# Altium footprint library Lib1.PcbLib: 53 footprints (part 4 of 4)
Each footprint in its own frame and in the unit in brackets; x right, y up, seen from the top. Pads: shape width x height; smd on the part's side, far side on the other; paste and mask are expansions set on the pad; w line width, h text height; cw(c..) or ccw(c..) is an arc to the next point about the centre after c.
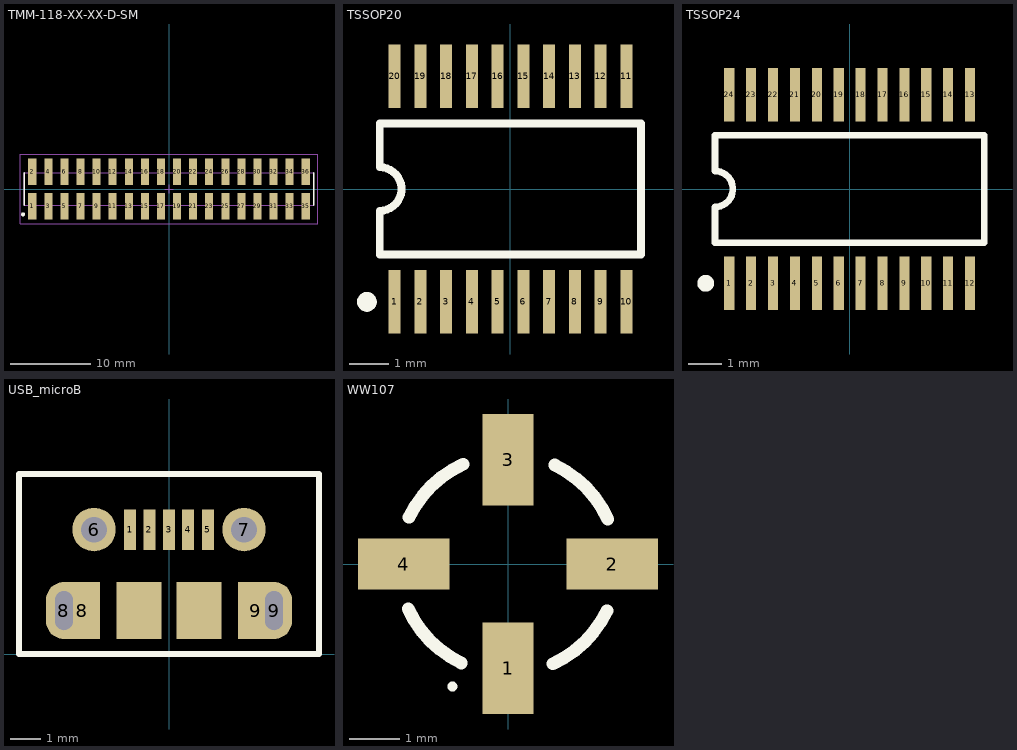
[diagram p3: the footprints below, top view; thin cyan lines are the x and y axes]

## TMM-118-XX-XX-D-SM [mm] "2.00mm pitch, 36 pin, terminal strip; double row, SMT"
height 2.77
pads (36):
  rect 1x3.3 smd mask+0: 1(-17,-2.15) 2(-17,2.15) 3(-15,-2.15) 4(-15,2.15) 5(-13,-2.15) 6(-13,2.15) 7(-11,-2.15) 8(-11,2.15) 9(-9,-2.15) 10(-9,2.15) 11(-7,-2.15) 12(-7,2.15) 13(-5,-2.15) 14(-5,2.15) 15(-3,-2.15) 16(-3,2.15) 17(-1,-2.15) 18(-1,2.15) 19(1,-2.15) 20(1,2.15) 21(3,-2.15) 22(3,2.15) 23(5,-2.15) 24(5,2.15) 25(7,-2.15) 26(7,2.15) 27(9,-2.15) 28(9,2.15) 29(11,-2.15) 30(11,2.15) 31(13,-2.15) 32(13,2.15) 33(15,-2.15) 34(15,2.15) 35(17,-2.15) 36(17,2.15)
Top Overlay:
  circle w0.25: c-18.15,-3.15 r0.125
  lines w0.2: -18,-2 -18,2 ; 18,-2 18,2
Mechanical 12:
  lines w0.001: -18,-2 18,-2 18,2 -18,2 -18,-2
Mechanical 13:
  lines w0.1: -18,-2 18,-2 18,2 -18,2 -18,-2
  text ".Designator" at 0,-0.127 h1.52
Mechanical 15:
  lines w0.05: -0.5,0 0.5,0 ; 0,-0.5 0,0.5 ; -18.5,-4.3 18.5,-4.3 18.5,4.3 -18.5,4.3 -18.5,-4.3

## TSSOP20 [mm] "Shrink Small Outline; 20 Leads; Body Width 4.4 mm; Pitch 0.65 mm"
height 1.1
pads (20):
  rect 0.3x1.6 smd: 1(-2.925,-2.85) 2(-2.275,-2.85) 3(-1.625,-2.85) 4(-0.975,-2.85) 5(-0.325,-2.85) 6(0.325,-2.85) 7(0.975,-2.85) 8(1.625,-2.85) 9(2.275,-2.85) 10(2.925,-2.85) 11(2.925,2.85) 12(2.275,2.85) 13(1.625,2.85) 14(0.975,2.85) 15(0.325,2.85) 16(-0.325,2.85) 17(-0.975,2.85) 18(-1.625,2.85) 19(-2.275,2.85) 20(-2.925,2.85)
Top Overlay:
  circle w0.25: c-3.625,-2.85 r0.125
  lines w0.2: -3.3,-1.65 3.3,-1.65 3.3,1.65 -3.3,1.65 -3.3,0.55 cw(c-3.3,0) -3.3,-0.55 -3.3,-1.65

## TSSOP24 [mm] "Shrink Small Outline; 24 Leads; Body Width 4.4 mm; Pitch 0.65 mm"
height 1.1
pads (24):
  rect 0.3x1.6 smd: 1(-3.575,-2.8) 2(-2.925,-2.8) 3(-2.275,-2.8) 4(-1.625,-2.8) 5(-0.975,-2.8) 6(-0.325,-2.8) 7(0.325,-2.8) 8(0.975,-2.8) 9(1.625,-2.8) 10(2.275,-2.8) 11(2.925,-2.8) 12(3.575,-2.8) 13(3.575,2.8) 14(2.925,2.8) 15(2.275,2.8) 16(1.625,2.8) 17(0.975,2.8) 18(0.325,2.8) 19(-0.325,2.8) 20(-0.975,2.8) 21(-1.625,2.8) 22(-2.275,2.8) 23(-2.925,2.8) 24(-3.575,2.8)
Top Overlay:
  circle w0.25: c-4.275,-2.8 r0.125
  lines w0.2: -4,-1.6 -4,-0.533 ccw(c-4,0) -4,0.533 -4,1.6 4,1.6 4,-1.6 -4,-1.6

## USB_microB [mm]
pads (13):
  rect 0.4x1.35 smd: 1(-1.3,4.15) 2(-0.65,4.15) 3(0,4.15) 4(0.64,4.15) 5(1.3,4.15)
  round 1.45 hole 0.85: 6(-2.5,4.15) 7(2.5,4.15)
  oval 1.2x1.9 hole 0.6 slot 1.3 at 90 deg: 8(-3.5,1.45) 9(3.5,1.45)
  rect 1.2x1.9 smd: 8(-2.9,1.45) 9(2.9,1.45)
  rect 1.5x1.9 smd: ""(-1,1.45) ""(1,1.45)
Top Overlay:
  lines w0.2: -5,0 -5,6 5,6 5,0 -5,0

## WW107 [mm] "SOT-23/SC-74A; 5 Leads; Body 3 x 3 mm, inc. leads (LxW max)"
height 1.45
pads (4):
  rect 1.02x1.83 smd: 1(0,-2.085) 3(0,2.085)
  rect 1.83x1.02 smd: 2(2.085,0) 4(-2.085,0)
Top Overlay:
  circle w0.1: c-1.112,-2.45 r0.05
  lines w0.254: -1.995,-0.898 ccw(c0,0) -0.933,-1.979 ; -1.979,0.933 cw(c0,0) -0.898,1.995 ; 0.898,-1.995 ccw(c0,0) 1.979,-0.933 ; 0.933,1.979 cw(c0,0) 1.995,0.898